# Altium footprint library PCB_Lib.PcbLib: 301 footprints (part 11 of 19)
Each footprint in its own frame and in the unit in brackets; x right, y up, seen from the top. Pads: shape width x height; smd on the part's side, far side on the other; paste and mask are expansions set on the pad; w line width, h text height; cw(c..) or ccw(c..) is an arc to the next point about the centre after c.
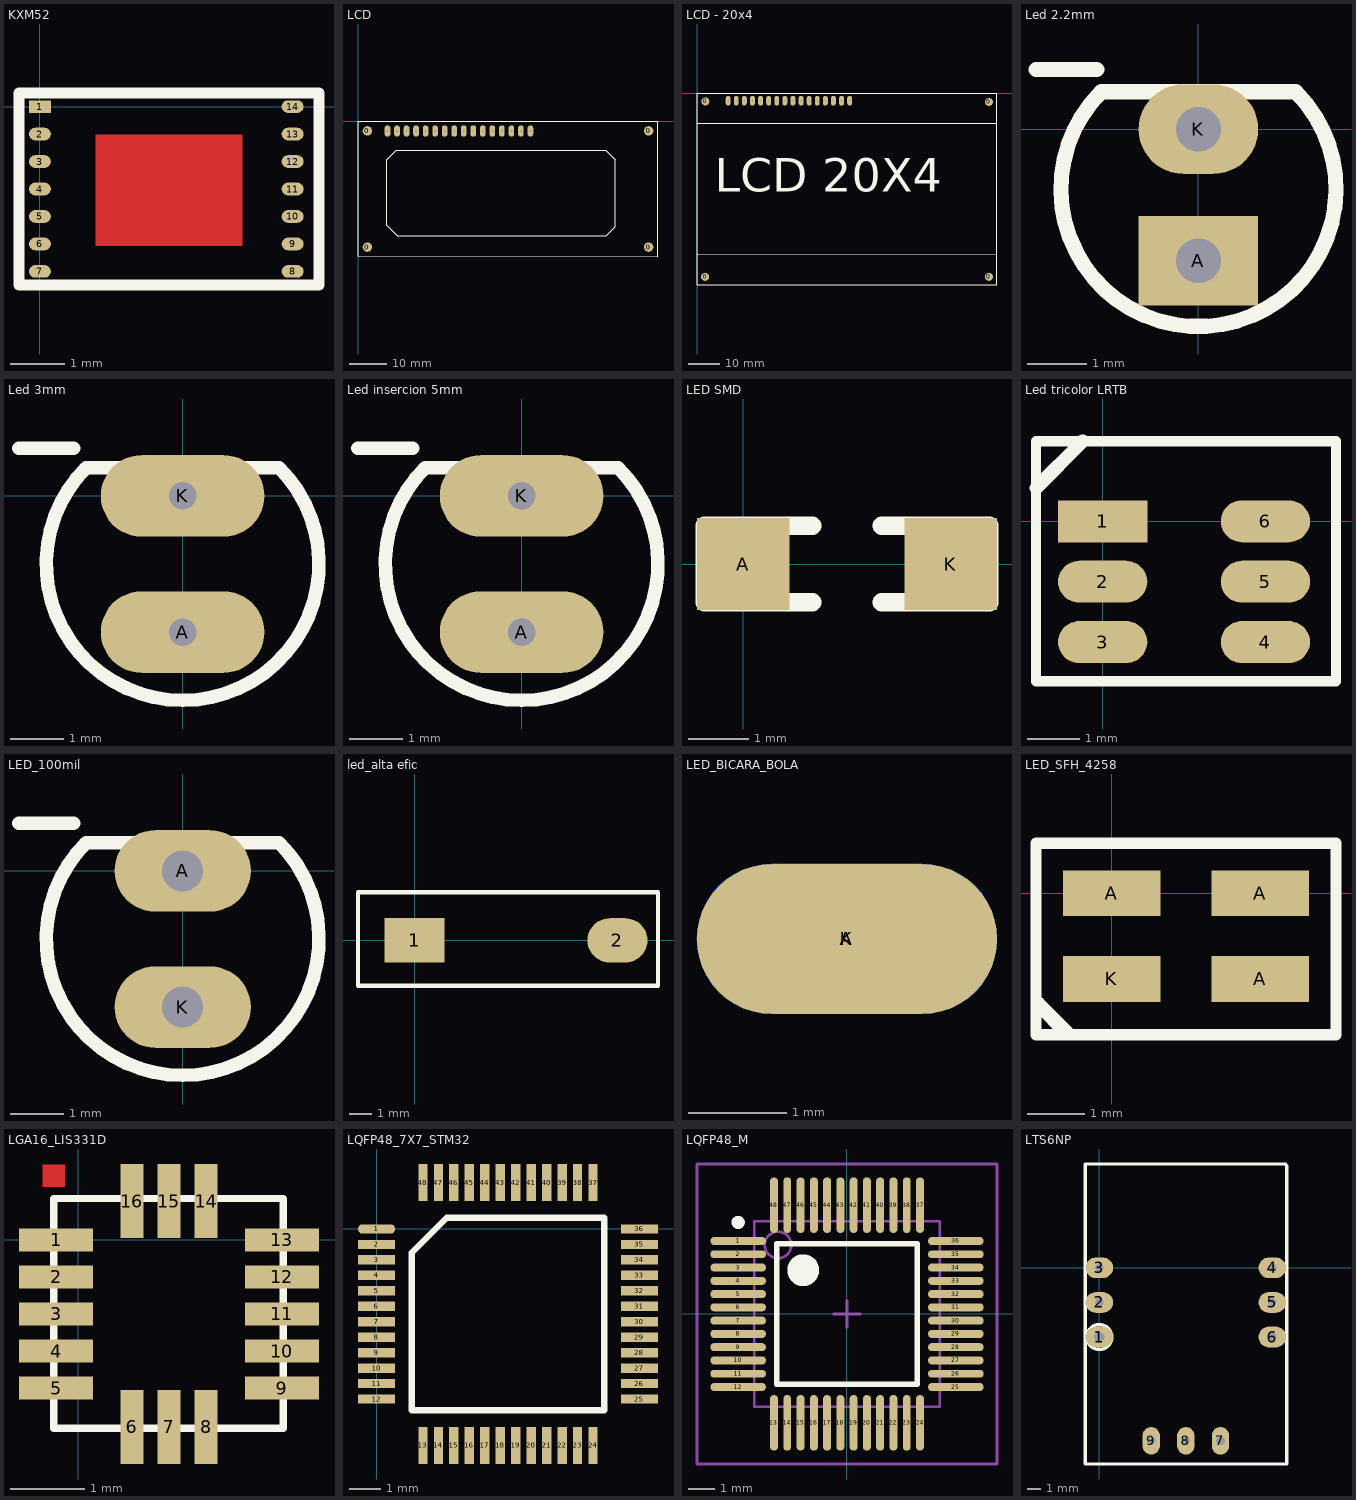
[diagram p10: the footprints below, top view; thin cyan lines are the x and y axes]

## KXM52 [mm]
pads (14):
  rect 0.4x0.23 smd: 1(0,0)
  oval 0.4x0.23 smd: 2(0,-0.5) 3(0,-1) 4(0,-1.5) 5(0,-2) 6(0,-2.5) 7(0,-3) 8(4.6,-3) 9(4.6,-2.5) 10(4.6,-2) 11(4.6,-1.5) 12(4.6,-1) 13(4.6,-0.5) 14(4.6,0)
Top Layer:
  rectangle: 1.016,-2.54 3.683,-0.508
Top Overlay:
  lines w0.2: -0.381,-3.25 -0.381,0.25 2.175,0.25 5.08,0.25 5.08,-3.25 -0.381,-3.25

## LCD [mil] "16x2"
pads (20):
  round 98.42 hole 20: 0(98.42,-1318.9) 0(98.42,-98.42)
  round 98.43 hole 20: 0(3051.18,-1318.9) 0(3051.18,-98.42)
  oval 60x120 hole 20: 1(310,-100) 2(410,-100) 3(510,-100) 4(610,-100) 5(710,-100) 6(810,-100) 7(910,-100) 8(1010,-100) 9(1110,-100) 10(1210,-100) 11(1310,-100) 12(1410,-100) 13(1510,-100) 14(1610,-100) 15(1710,-100) 16(1810,-100)
Top Overlay:
  lines w10: 0,-1417.32 0,0 3149.61,0 3149.61,-1417.32 0,-1417.32 ; 300,-1090 300,-400 400,-300 2600,-300 2700,-400 2700,-1105 2605,-1200 410,-1200 300,-1090

## LCD - 20x4 [mil] "20x4"
pads (20):
  round 98.42 hole 20: 0(95,-2265) 0(98.42,-98.42)
  round 98.43 hole 20: 0(3600,-2265) 0(3600,-105)
  oval 60x120 hole 20: 1(380,-90) 2(480,-90) 3(580,-90) 4(680,-90) 5(780,-90) 6(880,-90) 7(980,-90) 8(1080,-90) 9(1180,-90) 10(1280,-90) 11(1380,-90) 12(1480,-90) 13(1580,-90) 14(1680,-90) 15(1780,-90) 16(1880,-90)
Top Overlay:
  lines w10: -5,-365 3700,-365 ; 5.03,-1985 3700,-1980 ; 0,-2360 3700,-2360 3700,0 0,0 0,-2360
  text "LCD 20X4" at 215,-1215 h414.33

## Led 2.2mm [mm] "no está modificado"
height 1.27
pads (2):
  rect 2x1.5 hole 0.75: A(0,-2.2)
  oval 2x1.5 hole 0.75: K(0,0)
Top Overlay:
  lines w0.254: -2.716,1 -1.7,1 ; -1.626,0.626 ccw(c0,-1) 1.626,0.626 -1.626,0.626

## Led 3mm [mil] "no está modificado"
height 50
pads (2):
  oval 120x60 hole 20: A(0,-100) K(0,0)
Top Overlay:
  lines w10: -120,35 -80,35 ; -70.71,20.71 ccw(c0,-50) 70.71,20.71 -70.71,20.71

## Led insercion 5mm [mil] "Led de insercion"
pads (2):
  oval 120x60 hole 20: A(0,-100) K(0,0)
Top Overlay:
  lines w10: -120,35 -80,35 ; -70.71,20.71 ccw(c0,-50) 70.71,20.71 -70.71,20.71

## LED SMD [mil] "SMD R&C"
pads (2):
  rect 60x60 smd: A(0,0) K(135,0)
Top Overlay:
  lines w12: 45,-25 10,-25 -25,-25 -25,25 -15,25 45,25 ; 90,-25 160,-25 160,25 90,25

## Led tricolor LRTB [mm]
pads (6):
  rect 1.7x0.8 smd: 1(0,0)
  oval 1.7x0.8 smd: 2(0,-1.15) 3(0,-2.3) 4(3.1,-2.3) 5(3.1,-1.15) 6(3.1,0)
Top Overlay:
  lines w0.2: 1.016,1.524 4.445,1.524 4.445,-3.048 -1.27,-3.048 -1.27,1.524 1.523,1.524
  lines w0.254: -1.27,0.635 -0.381,1.524

## LED_100mil [mil] "no está modificado"
height 50
pads (2):
  oval 100x60 hole 30: A(0,0) K(0,-100)
Top Overlay:
  lines w10: -120,35 -80,35 ; -70.71,20.71 ccw(c0,-50) 70.71,20.71 -70.71,20.71

## led_alta efic [mm]
pads (2):
  rect 2.7x2 smd: 1(0,0)
  oval 2.7x2 smd: 2(9.1,0)
Top Overlay:
  lines w0.2: 2.185,2.159 10.922,2.159 10.922,-2.032 -2.54,-2.032 -2.54,2.159 3.925,2.159

## LED_BICARA_BOLA [mil]
pads (2):
  oval 120x60 smd: A(-230.31,-76.77)
  oval 120x60 smd far side: K(-230.31,-76.77)

## LED_SFH_4258 [mm]
pads (4):
  rect 1.7x0.8 smd: A(0,0) A(2.6,-1.5) A(2.6,0) K(0,-1.5)
Top Overlay:
  lines w0.2: -1.325,-2.475 3.925,-2.475 3.925,0.875 -1.325,0.875 -1.325,-2.475
  lines w0.254: -1.288,-1.937 -0.788,-2.437

## LGA16_LIS331D [mm]
pads (16):
  rect 1x0.31 smd: 1(-0.3,0) 2(-0.3,-0.5) 3(-0.3,-1) 4(-0.3,-1.5) 5(-0.3,-2) 9(2.75,-2) 10(2.75,-1.5) 11(2.75,-1) 12(2.75,-0.5) 13(2.75,0)
  rect 0.31x1 smd: 6(0.725,-2.525) 7(1.225,-2.525) 8(1.725,-2.525) 14(1.725,0.525) 15(1.225,0.525) 16(0.725,0.525)
Top Layer:
  rectangle: -0.483,0.711 -0.178,1.016
Top Overlay:
  lines w0.1: -0.33,-2.54 -0.33,0.559 2.769,0.559 2.769,-2.54 -0.33,-2.54

## LQFP48_7X7_STM32 [mm]
pads (48):
  oval 1.2x0.3 smd: 1(0,0)
  rect 1.2x0.3 smd: 2(0,-0.5) 3(0,-1) 4(0,-1.5) 5(0,-2) 6(0,-2.5) 7(0,-3) 8(0,-3.5) 9(0,-4) 10(0,-4.5) 11(0,-5) 12(0,-5.5) 25(8.5,-5.5) 26(8.5,-5) 27(8.5,-4.5) 28(8.5,-4) 29(8.5,-3.5) 30(8.5,-3) 31(8.5,-2.5) 32(8.5,-2) 33(8.5,-1.5) 34(8.5,-1) 35(8.5,-0.5) 36(8.5,0)
  rect 0.3x1.2 smd: 13(1.5,-7) 14(2,-7) 15(2.5,-7) 16(3,-7) 17(3.5,-7) 18(4,-7) 19(4.5,-7) 20(5,-7) 21(5.5,-7) 22(6,-7) 23(6.5,-7) 24(7,-7) 37(7,1.5) 38(6.5,1.5) 39(6,1.5) 40(5.5,1.5) 41(5,1.5) 42(4.5,1.5) 43(4,1.5) 44(3.5,1.5) 45(3,1.5) 46(2.5,1.5) 47(2,1.5) 48(1.5,1.5)
Top Overlay:
  lines w0.2: 1.135,-5.865 1.135,-0.77 2.27,0.365 7.365,0.365 7.365,-5.865 1.135,-5.865

## LQFP48_M [mm] "Thin QFP, 48-Leads, Body 7x7mm, Pitch 0.5mm, IPC Low Density"
height 1.6
pads (48):
  oval 2.1x0.3 smd: 1(-4.1,2.75) 2(-4.1,2.25) 3(-4.1,1.75) 4(-4.1,1.25) 5(-4.1,0.75) 6(-4.1,0.25) 7(-4.1,-0.25) 8(-4.1,-0.75) 9(-4.1,-1.25) 10(-4.1,-1.75) 11(-4.1,-2.25) 12(-4.1,-2.75) 25(4.1,-2.75) 26(4.1,-2.25) 27(4.1,-1.75) 28(4.1,-1.25) 29(4.1,-0.75) 30(4.1,-0.25) 31(4.1,0.25) 32(4.1,0.75) 33(4.1,1.25) 34(4.1,1.75) 35(4.1,2.25) 36(4.1,2.75)
  oval 0.3x2.1 smd: 13(-2.75,-4.1) 14(-2.25,-4.1) 15(-1.75,-4.1) 16(-1.25,-4.1) 17(-0.75,-4.1) 18(-0.25,-4.1) 19(0.25,-4.1) 20(0.75,-4.1) 21(1.25,-4.1) 22(1.75,-4.1) 23(2.25,-4.1) 24(2.75,-4.1) 37(2.75,4.1) 38(2.25,4.1) 39(1.75,4.1) 40(1.25,4.1) 41(0.75,4.1) 42(0.25,4.1) 43(-0.25,4.1) 44(-0.75,4.1) 45(-1.25,4.1) 46(-1.75,4.1) 47(-2.25,4.1) 48(-2.75,4.1)
Top Overlay:
  circle w0.25: c-4.1,3.45 r0.125
  circle w0.6: c-1.65,1.65 r0.3
  lines w0.2: -2.65,-2.65 -2.65,2.65 2.65,2.65 2.65,-2.65 -2.65,-2.65
Mechanical 13:
  circle w0.1: c-2.6,2.6 r0.5
  lines w0.1: -3.5,-3.5 -3.5,3.5 3.5,3.5 3.5,-3.5 -3.5,-3.5
Mechanical 15:
  lines w0.1: -0.5,0 0.5,0 ; 0,-0.5 0,0.5 ; -5.65,-5.65 -5.65,5.65 5.65,5.65 5.65,-5.65 -5.65,-5.65
3D body: height 1.6, standoff 0, extent -3.5,-3.5 3.5,3.5

## LTS6NP [mil] "LEM current sensor"
pads (9):
  oval 80x60 hole 30: 1(0,-200)
  oval 80x60 hole 25: 2(0,-100) 3(0,0) 4(500,0) 5(500,-100) 6(500,-200)
  oval 50x80 hole 25: 7(350,-500) 8(250,-500) 9(150,-500)
Top Overlay:
  lines w10: 36,-200 cw(c-0.02,-200) 35.99,-199.14 ; -41,-567 542,-567 542,251 542,295 537,300 -41,300 -41,-567